# Altium footprint library SON50P200X200X80-8N.PcbLib: 1 footprints
Each footprint in its own frame and in the unit in brackets; x right, y up, seen from the top. Pads: shape width x height; smd on the part's side, far side on the other; paste and mask are expansions set on the pad; w line width, h text height; cw(c..) or ccw(c..) is an arc to the next point about the centre after c.
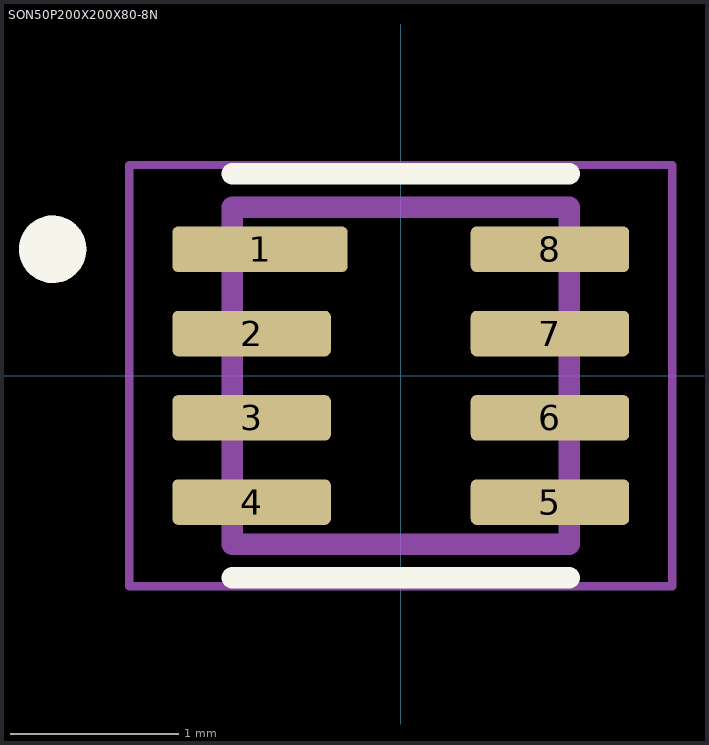
[diagram p0: the footprint, top view; thin cyan lines are the x and y axes]

## SON50P200X200X80-8N [mm]
pads (8):
  rrect25% 1.04x0.27 smd paste+0 mask+0.102: 1(-0.835,0.75)
  rrect25% 0.94x0.27 smd paste+0 mask+0.102: 2(-0.885,0.25) 3(-0.885,-0.25) 4(-0.885,-0.75) 5(0.885,-0.75) 6(0.885,-0.25) 7(0.885,0.25) 8(0.885,0.75)
Top Overlay:
  circle w0.2: c-2.065,0.75 r0.1
  lines w0.127: -1,-1.199 1,-1.199 ; -1,1.199 1,1.199
Assembly Top:
  circle w0.2: c-2.065,0.75 r0.1
  lines w0.127: -1,-1 1,-1 1,1 -1,1 -1,-1
Top Courtyard:
  lines w0.05: -1.61,-1.25 1.61,-1.25 1.61,1.25 -1.61,1.25 -1.61,-1.25